# EAGLE library part ARDUINO-PINS (library arno)
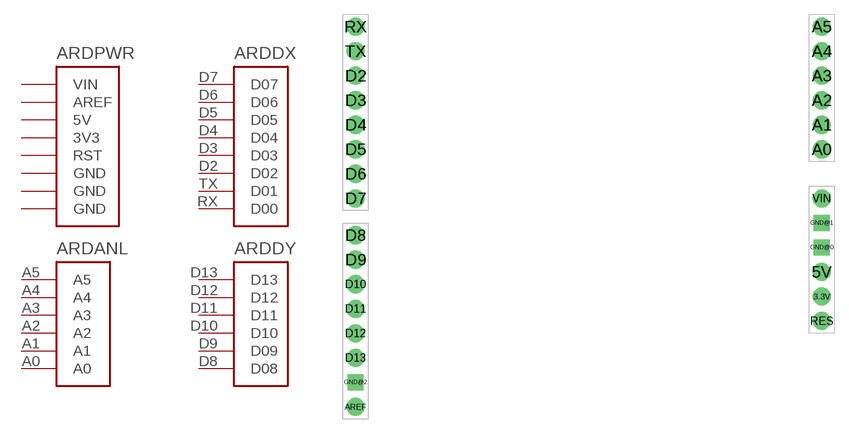
[diagram p4: symbol with the pads of DUEMILANOVE-VIAS; footprint DUEMILANOVE-VIAS]

Designator prefix ARD; gates PWR=PIN-ARD-POWER DX=PIN-ARD-DIGI0007 DY=PIN-ARD-DIGI0813 ANL=PIN-ARD-ANALOG

## ARDUINO-PINSVIAS  [DUEMILANOVE-VIAS]
3.3V  PWR:3V3
5V  PWR:5V
A0  ANL:A0
A1  ANL:A1
A2  ANL:A2
A3  ANL:A3
A4  ANL:A4
A5  ANL:A5
AREF  PWR:AREF
D2  DX:D02
D3  DX:D03
D4  DX:D04
D5  DX:D05
D6  DX:D06
D7  DX:D07
D8  DY:D08
D9  DY:D09
D10  DY:D10
D11  DY:D11
D12  DY:D12
D13  DY:D13
GND@0  PWR:GND
GND@1  PWR:GND
GND@2  PWR:GND
RES  PWR:RST
RX  DX:D00
TX  DX:D01
VIN  PWR:VIN

## Footprint DUEMILANOVE-VIAS (pad centres in mm)
drill 1.016 pad 1.88: 3.3V 24.13,-8.89; 5V 24.13,-6.35; A0 24.13,6.35; A1 24.13,8.89; A2 24.13,11.43; A3 24.13,13.97; A4 24.13,16.51; A5 24.13,19.05; AREF -24.13,-20.32; D2 -24.13,13.97; D3 -24.13,11.43; D4 -24.13,8.89; D5 -24.13,6.35; D6 -24.13,3.81; D7 -24.13,1.27; D8 -24.13,-2.54; D9 -24.13,-5.08; D10 -24.13,-7.62; D11 -24.13,-10.16; D12 -24.13,-12.7; D13 -24.13,-15.24; RES 24.13,-11.43; RX -24.13,19.05; TX -24.13,16.51; VIN 24.13,1.27
drill 1.016 pad 1.676 square: GND@0 24.13,-3.81; GND@1 24.13,-1.27; GND@2 -24.13,-17.78